# Altium schematic symbol library Module.SchLib: 8 symbols
Pins are listed as number, name and electrical type; pins without a type are passive.

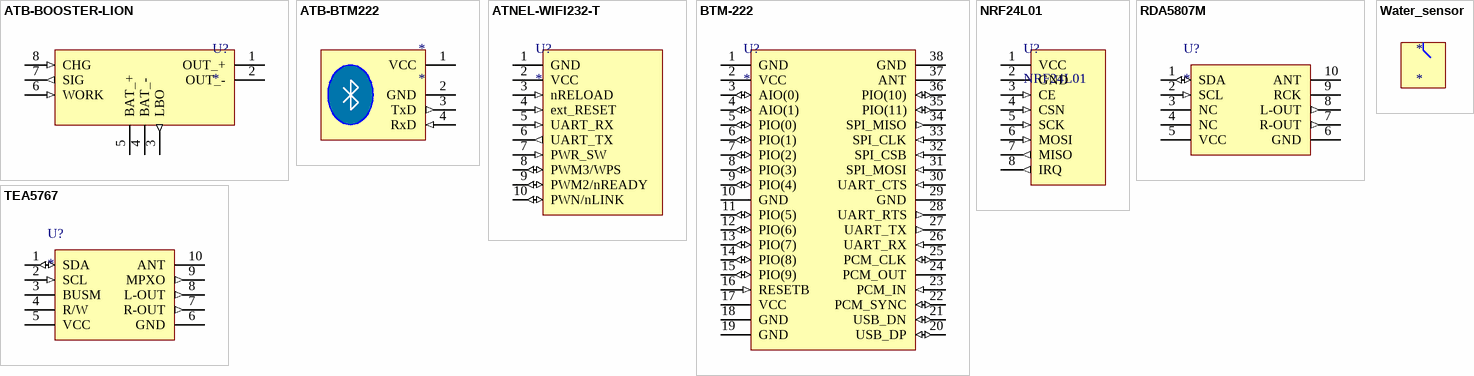
[diagram p0: symbols ATB-BOOSTER-LION to Water_sensor]

## ATB-BOOSTER-LION
designator U?
footprint ATB-BOOSTER_LION_V02
pins: 1 OUT_+ (power), 2 OUT_- (power), 3 LBO (out), 4 BAT_- (power), 5 BAT_+ (power), 6 WORK (in), 7 SIG (out), 8 CHG (in)

## ATB-BTM222
designator *
footprint ATB-BTM222-MODULE
pins: 1 VCC (power), 2 GND (power), 3 TxD (out), 4 RxD (in)

## ATNEL-WIFI232-T
designator U?
footprint ATNEL-WIFI232-T
pins: 1 GND (power), 2 VCC (power), 3 nRELOAD (in), 4 ext_RESET (in), 5 UART_RX (in), 6 UART_TX (out), 7 PWR_SW (in), 8 PWM3/WPS (io), 9 PWM2/nREADY (io), 10 PWN/nLINK (io)

## BTM-222
designator U?
footprint BTM-222
pins: 1 GND (power), 2 VCC (power), 3 AIO(0) (io), 4 AIO(1) (io), 5 PIO(0) (io), 6 PIO(1) (io), 7 PIO(2) (io), 8 PIO(3) (io), 9 PIO(4) (io), 10 GND (power), 11 PIO(5) (io), 12 PIO(6) (io), 13 PIO(7) (io), 14 PIO(8) (io), 15 PIO(9) (io), 16 RESETB (in), 17 VCC (power), 18 GND (power), 19 GND (power), 20 USB_DP (io), 21 USB_DN (io), 22 PCM_SYNC (io), 23 PCM_IN (in), 24 PCM_OUT, 25 PCM_CLK (io), 26 UART_RX (in), 27 UART_TX (out), 28 UART_RTS (out), 29 GND (power), 30 UART_CTS (in), 31 SPI_MOSI (in), 32 SPI_CSB (in), 33 SPI_CLK (in), 34 SPI_MISO (out), 35 PIO(11) (io), 36 PIO(10) (io), 37 ANT, 38 GND (power)

## NRF24L01
designator U?
footprint NRF24L01
pins: 1 VCC (power), 2 GND (power), 3 CE (in), 4 CSN (in), 5 SCK (in), 6 MOSI (in), 7 MISO (out), 8 IRQ (out)

## RDA5807M
designator U?
footprint RDA5807M
pins: 1 SDA (io), 2 SCL (in), 3 NC, 4 NC, 5 VCC (power), 6 GND (power), 7 R-OUT (out), 8 L-OUT (out), 9 RCK, 10 ANT

## TEA5767
designator U?
footprint TEA5767
pins: 1 SDA (io), 2 SCL (in), 3 BUSM, 4 R/W, 5 VCC (power), 6 GND (power), 7 R-OUT (out), 8 L-OUT (out), 9 MPXO (out), 10 ANT

## Water_sensor
designator *